# Altium schematic symbol library mcHF_rf.SchLib: 60 symbols
Pins are listed as number, name and electrical type; pins without a type are passive.

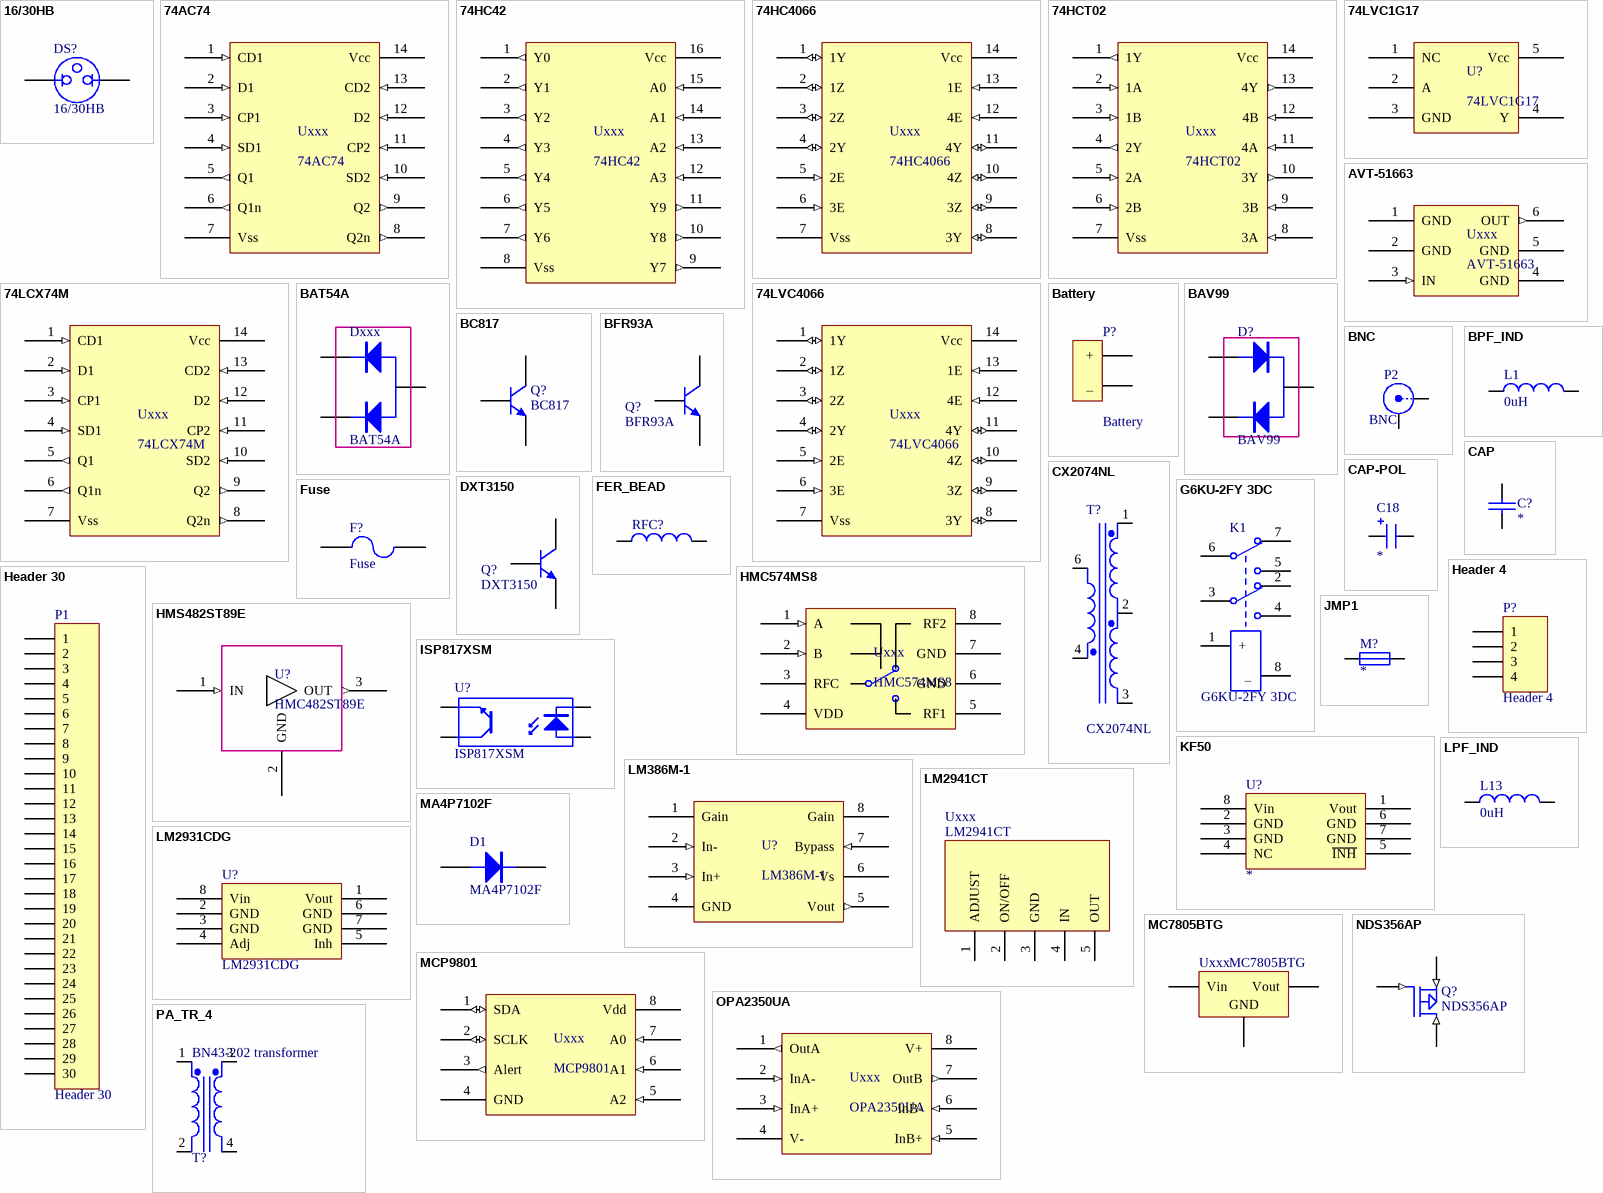
[diagram p0: symbols 16/30HB to PA_TR_4]

## 16/30HB
designator DS?
NEON LAMP, WIRE ENDED, T2; Order: FN 113-9250; Price: 0.243
footprint SIP2
pins: 1, 2

## 74AC74
designator Uxxx
Dual D-Type Flip-Flop
pins: 1 CD1 (in), 2 D1 (in), 3 CP1 (in), 4 SD1 (in), 5 Q1 (out), 6 Q1n (out), 7 Vss (power), 8 Q2n (out), 9 Q2 (out), 10 SD2 (in), 11 CP2 (in), 12 D2 (in), 13 CD2 (in), 14 Vcc (power)

## 74HC42
designator Uxxx
Address Decoder
pins: 1 Y0 (out), 2 Y1 (out), 3 Y2 (out), 4 Y3 (out), 5 Y4 (out), 6 Y5 (out), 7 Y6 (out), 8 Vss (power), 9 Y7 (out), 10 Y8 (out), 11 Y9 (out), 12 A3 (in), 13 A2 (in), 14 A1 (in), 15 A0 (in), 16 Vcc (power)

## 74HC4066
designator Uxxx
Quad bilateral switch
footprint SO-14
pins: 1 1Y (io), 2 1Z (io), 3 2Z (io), 4 2Y (io), 5 2E (in), 6 3E (in), 7 Vss (power), 8 3Y (io), 9 3Z (io), 10 4Z (io), 11 4Y (io), 12 4E (in), 13 1E (in), 14 Vcc (power)

## 74HCT02
designator Uxxx
Quad 2-input NOR gate; Order: FN 108-5298; Price: 0.38
footprint SO-14
pins: 1 1Y (out), 2 1A (in), 3 1B (in), 4 2Y (out), 5 2A (in), 6 2B (in), 7 Vss (power), 8 3A (in), 9 3B (in), 10 3Y (out), 11 4A (in), 12 4B (in), 13 4Y (out), 14 Vcc (power)

## 74LCX74M
designator Uxxx
Low Voltage Dual D-Type Positive Edge-Triggered  Flip-Flop with 5V Tolerant Inputs; Order: FN 101-3791; Price: 0.27
footprint SO-14
pins: 1 CD1 (in), 2 D1 (in), 3 CP1 (in), 4 SD1 (in), 5 Q1 (out), 6 Q1n (out), 7 Vss (power), 8 Q2n (out), 9 Q2 (out), 10 SD2 (in), 11 CP2 (in), 12 D2 (in), 13 CD2 (in), 14 Vcc (power)

## 74LVC1G17
designator U?  (graphical)
SINGLE SCHMITT-TRIGGER BUFFER; Order: FN 189-3834; Price: 0.082
footprint SOT353-5 (5 lead package DCK)
pins: 1 NC, 2 A, 3 GND, 4 Y, 5 Vcc

## 74LVC4066
designator Uxxx
Quad bilateral switch
pins: 1 1Y (io), 2 1Z (io), 3 2Z (io), 4 2Y (io), 5 2E (in), 6 3E (in), 7 Vss (power), 8 3Y (io), 9 3Z (io), 10 4Z (io), 11 4Y (io), 12 4E (in), 13 1E (in), 14 Vcc (power)

## AVT-51663
designator Uxxx  (graphical)
InGaP HBT Gain Block
pins: 1 GND (power), 2 GND (power), 3 IN (in), 4 GND (power), 5 GND (power), 6 OUT (out)

## BAT54A
designator Dxxx
DIODE, SCHOTTKY, DUAL; Order: FN 108-1191; Price: 0.024
footprint SOT-23
pins: 1 K1, 2 K2, 3 A
2 alternate drawings of the same symbol

## Battery
designator P?
Battery Terminal
footprint BatteryTerminal
pins: 1 +, 2 _

## BAV99
designator D?
Small Signal Diode, Dual Series; Order: FN 162-1837; Price: 0.0618
footprint SOT-23
pins: 1 A1, 2 K1, 3 C
2 alternate drawings of the same symbol

## BC817
designator Q?
NPN General Purpose Amplifier; Order: FN 108-1223; Price: 0.0309
footprint SOT-23
pins: 1 B, 2 E, 3 C

## BFR93A
designator Q?
TRANSISTOR, RF, NPN, 12V, 0.035MA,SOT-23; Order: FN 108-1300; Price: 0.161
footprint SOT-23
pins: 1 B, 2 E, 3 C

## BNC
designator P2
RF COAXIAL, BNC, JACK; Order: FN 171-2350; Price: 0.69
footprint BNC_RA CON (Connector; BNC Elbow)
pins: 1 X, 2 Y

## BPF_IND
designator L1, comment 0uH
INDUCTOR SMD; Order: FN
signal-integrity model Inductor
footprint 0805
pins: 1, 2

## CAP
designator C?
Capacitor; Order: FN; Price: 0
footprint 0805
pins: 1, 2

## CAP-POL
designator C18
Electrolitic capacitor
footprint 1206
pins: 1, 2
2 alternate drawings of the same symbol

## CX2074NL
designator T?
Wideband RF Transformer 1:4; Order: DK 553-1655-ND; Price: 2.01
footprint SOP5_NEW1 (Small Outline; 6 Leads (1 Absent); Body Width 6.9 mm; Pitch 2 mm)
pins: 1 Sec0, 2 SecCmn, 3 Sec180, 4 Pri-, 6 Pri+

## DXT3150
designator Q?
BIPOLAR, TRANSISTOR, NPN, SOT-89; Order: FN 171-3880; Price: 0.221
footprint SOT89L (SOT89, 3-Leads, Body 4.5x2.4 mm, Pitch 1.5mm, Lead Span 4.1mm, IPC High Density)
pins: 1 B, 2 C, 3 E

## FER_BEAD
designator RFC?, comment 0uH  (value not drawn)
BN43-2402 1t choke; Order: EB 300988432524; Price: 0.298
footprint F_Bead (Ferrite bead choke, 1t, BN43-2402)
pins: 1, 2

## Fuse
designator F?
Order: FN 184-1065; Price: 0.134
footprint 1206
pins: 1, 2

## G6KU-2FY 3DC
designator K1
Single-winding Latching Relay; Order: FN 118-1070; Price: 2.19
footprint Omron_2FY (Omron SMD relay)
pins: 1 +, 2, 3, 4, 5, 6, 7, 8 _

## Header 4
designator P?
Header, 4-Pin
signal-integrity model Connector
footprint HDR1X4 (Connector; Header; 4 Position)
pins: 1, 2, 3, 4

## Header 30
designator P1
Header, 30-Pin; Order: EB 290947876334; Price: 0.295
signal-integrity model Connector
footprint HDR1X30 (Connector; Header; 30 Position)
pins: 1, 2, 3, 4, 5, 6, 7, 8, 9, 10, 11, 12, 13, 14, 15, 16, 17, 18, 19, 20, 21, 22, 23, 24, 25, 26, 27, 28, 29, 30

## HMC574MS8
designator Uxxx  (graphical)
GaAs MMIC 5 WATT T/R SWITCH
pins: 1 A (in), 2 B (in), 3 RFC, 4 VDD (power), 5 RF1, 6 GND, 7 GND (power), 8 RF2

## HMS482ST89E
designator U?, comment HMC482ST89E
MMIC AMPLIFIER
footprint SOT89L_new (SOT89, 3-Leads, Body 4.5x2.4 mm, Pitch 1.5mm, Lead Span 4.1mm, IPC High Density)
pins: 1 IN (in), 2 GND (power), 3 OUT (out)

## ISP817XSM
designator U?
OPTOCOUPLER, SMDIP-4, TR O/P; Order: FN 168-3292; Price: 0.26
footprint SMDIP-4_new1 (4 pin SMD DIP, pitch 2.54mm)
pins: 1 A "Anode", 2 K "Cathode", 3 E "Emitter", 4 C "Collector"

## JMP1
designator M?
Jumper
footprint 0805-Jumper
pins: 1, 1
2 alternate drawings of the same symbol

## KF50
designator U?
5V regulator with inhibit
footprint SO-8
pins: 1 Vout, 2 GND, 3 GND, 4 NC, 5 ~{INH}, 6 GND, 7 GND, 8 Vin

## LM386M-1
designator U?
Low Voltage Audio Power Amplifier; Order: FN 948-8324; Price: 0.63
footprint SO-8
pins: 1 Gain, 2 In- (in), 3 In+ (in), 4 GND (power), 5 Vout (out), 6 Vs (power), 7 Bypass (in), 8 Gain

## LM2931CDG
designator U?
100 mA, Adjustable Output,  LDO Voltage Regulator with  60 V Load Dump Protection; Order: FN 121-1100; Price: 0.39
footprint SO-8
pins: 1 Vout, 2 GND, 3 GND, 4 Adj, 5 Inh, 6 GND, 7 GND, 8 Vin

## LM2941CT
designator Uxxx
V REG ADJ +5/20V, 2941, TO-220-5; Order: FN 948-9371; Price: 1.28
footprint TO-220-5 (TO, Thru-Hole, Vertical, Heatsink Mounted; 5 In-Line Leads; Pitch 1.70 mm)
pins: 1 ADJUST, 2 ON/OFF, 3 GND, 4 IN, 5 OUT

## LPF_IND
designator L13, comment 0uH
T37-2 handwound inductor; Order: EB 400348182316; Price: 0.20
footprint LPF_IND (T37-2 inductor)
pins: 1, 2

## MA4P7102F
designator D1
MELF & HIPAX PIN Diod; Order: DK 1465-1236-1-ND; Price: 2.20
footprint 1072T (1072 MELF package)
pins: 1 K, 2 A

## MC7805BTG
designator Uxxx
VOLTAGE REG, 40V, TO220-3; Order: FN 121-1135; Price: 0.56
footprint TO-220 (TO, Thru-Hole, Vertical, Heatsink Mounted; 3 In-Line Leads; Pitch 2.54 mm)
pins: 1 Vin, 2 GND, 3 Vout

## MCP9801
designator Uxxx  (graphical)
2-Wire High-Accuracy Temperature Sensor; Order: FN 143-9486; Price: 1.05
footprint SO-8
pins: 1 SDA (io), 2 SCLK (io), 3 Alert (out), 4 GND (power), 5 A2 (in), 6 A1 (in), 7 A0 (in), 8 Vdd (power)

## NDS356AP
designator Q?
Order: FN 984-6409; Price: 0.31
footprint SOT-23
pins: 1 G (in), 2 S (in), 3 D (in)

## OPA2350UA
designator Uxxx
High Speed, Single Supply OpAmp; Order: FN 110-1542; Price: 4.67
footprint SO-8
pins: 1 OutA (out), 2 InA- (in), 3 InA+ (in), 4 V- (power), 5 InB+ (in), 6 InB- (in), 7 OutB (out), 8 V+ (power)

## PA_TR_4
designator T?, comment BN43-202 transformer
BN43-202 2:3 transformer; Order: EB 291023830340; Price: 0.534
footprint PA_TRM_4 (transformer 2:3, 4 pin, BN43-202)
pins: 1 Pri+, 2 Pri-, 3 Sec+, 4 Sec-

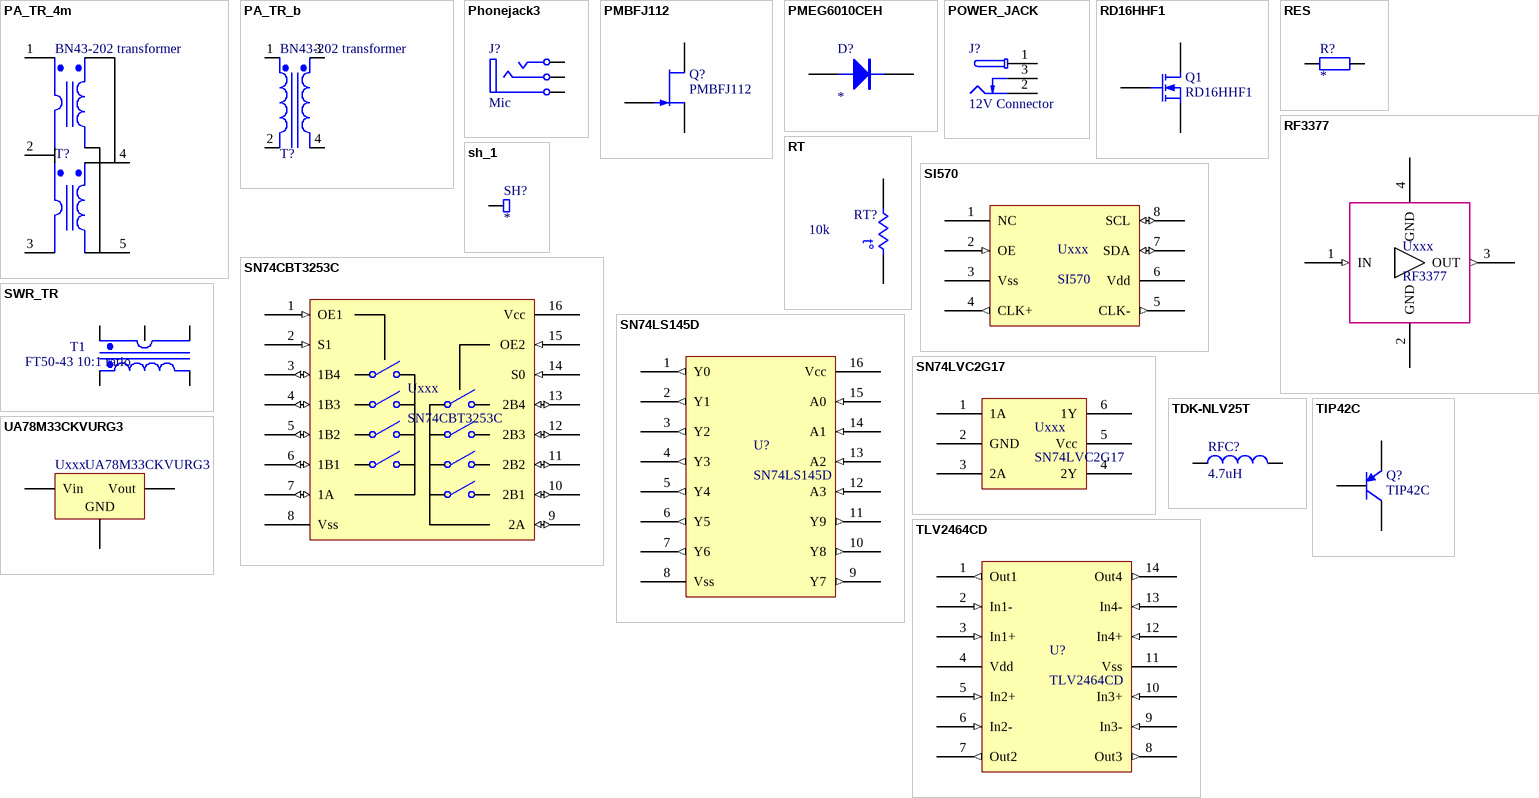
[diagram p1: symbols PA_TR_4m to UA78M33CKVURG3]

## PA_TR_4m
designator T?, comment BN43-202 transformer
BN43-202 2:3 transformer; Order: EB 291023830340; Price: 0.534
footprint PA_TRM_4m (transformer 2:3, 4 pin, BN43-202)
pins: 1 Pri 0 deg, 2 Pri Common, 3 Pri 180 deg, 4 Sec+, 5 Sec-

## PA_TR_b
designator T?, comment BN43-202 transformer
BN43-202 bifilar transformer; Order: EB 291023830340; Price: 0.534
footprint PA_TRM_b (bifilar transformer, 4 pin, BN43-202)
pins: 1 Pri+, 2 Pri-, 3 Sec+, 4 Sec-

## Phonejack3
designator J?, comment Mic
Jack Socket,Thru-Hole; Order: FN 126-7376; Price: 0.35
footprint MX-387GL (Pro Signal 3pin receptacle)
pins: R "Ring/Right Channel", S (power) "Sleeve (Ground)", T "Tip/Left Channel"

## PMBFJ112
designator Q?
N-Channel JFET; Order: FN 134-9667; Price: 0.36
footprint SOT-23
pins: 1 D, 2 S, 3 G

## PMEG6010CEH
designator D?
DIODE, SCHOTTKY, 1A, 60V, SOD-123F; Order: FN 151-0694; Price: 0.085
footprint SOD87
pins: 1 A, 2 K

## POWER_JACK
designator J?, comment 12V Connector
Power Jack; Order: FN 188-9309; Price: 0.83
footprint PowerJack
pins: 1, 2, 3

## RD16HHF1
designator Q1
Silicon RF Power MOS FET; Order: EB 121171160336; Price: 7.375
footprint TO-220RF_dual (modified TO-220 to accept mitsubishi and IRF transistors)
pins: 1 G, 2 S, 3 D

## RES
designator R?
Resistor
footprint 0805
pins: 1, 2
2 alternate drawings of the same symbol

## RF3377
designator Uxxx
AMP, RF, GAIN BCK, DC-6GHZ, SOT89
pins: 1 IN (in), 2 GND (power), 3 OUT (out), 4 GND (power)

## RT
designator RT?, comment 10k
NTC Thermistor; Order: FN 228-5468; Price: 4.57
footprint SIP2m
pins: 1, 2
text: t°

## sh_1
designator SH?
shielding pad
footprint shield_pad
pins: 1
2 alternate drawings of the same symbol

## SI570
designator Uxxx  (graphical)
I2C programmable XO; Order: DK 336-2518-ND; Price: 8.72
footprint SI570_m (PLL, SM; Body 7 x 5 mm (LxW))
pins: 1 NC, 2 OE (in), 3 Vss (power), 4 CLK+ (out), 5 CLK- (out), 6 Vdd (power), 7 SDA (io), 8 SCL (io)

## SN74CBT3253C
designator Uxxx
Dual 4:1 Demux/Analog Switch; Order: FN 175-0447; Price: 0.69
footprint SO-16
pins: 1 OE1 (in), 2 S1 (in), 3 1B4 (io), 4 1B3 (io), 5 1B2 (io), 6 1B1 (io), 7 1A (io), 8 Vss (power), 9 2A (io), 10 2B1 (io), 11 2B2 (io), 12 2B3 (io), 13 2B4 (io), 14 S0 (in), 15 OE2 (in), 16 Vcc (power)

## SN74LS145D
designator U?
BCD DECODER/DRIVER; Order: FN 959-2300; Price: 1.22
footprint SO-16
pins: 1 Y0 (out), 2 Y1 (out), 3 Y2 (out), 4 Y3 (out), 5 Y4 (out), 6 Y5 (out), 7 Y6 (out), 8 Vss (power), 9 Y7 (out), 10 Y8 (out), 11 Y9 (out), 12 A3 (in), 13 A2 (in), 14 A1 (in), 15 A0 (in), 16 Vcc (power)

## SN74LVC2G17
designator Uxxx  (graphical)
Dual Schmitt Trigger Buffer; Order: FN 128-7569; Price: 0.40
footprint SOT25-6 (6 lead package)
pins: 1 1A, 2 GND, 3 2A, 4 2Y, 5 Vcc, 6 1Y

## SWR_TR
designator T1, comment FT50-43 10:1 ratio
SWR Bridge transformer; Order: EB 300771069431; Price: 0.795
footprint SWR_TR _new (FT50-43 10:1 transformer)
pins: 1 Pri+, 2 Pri-, 3 Sec+, 4 Sec-, 5 Shield

## TDK-NLV25T
designator RFC?, comment 4.7uH
INDUCTOR, SIGNAL LINE, 4.7UH, 1005; Order: FN 166-9896; Price: 0.166
signal-integrity model Inductor
footprint 0805
pins: 1, 2

## TIP42C
designator Q?
PNP 65W Switch; Order: FN 157-4342; Price: 2.84
footprint TO-220c (TO, Thru-Hole, Vertical, Heatsink Mounted; 3 In-Line Leads; Pitch 2.54 mm)
pins: 1 B, 2 C, 3 E

## TLV2464CD
designator U?
Low Power, Rail-To-Rail OpAmp; Order: FN 845-5171; Price: 1.47
footprint SO-14
pins: 1 Out1 (out), 2 In1- (in), 3 In1+ (in), 4 Vdd (power), 5 In2+ (in), 6 In2- (in), 7 Out2 (out), 8 Out3 (out), 9 In3- (in), 10 In3+ (in), 11 Vss (power), 12 In4+ (in), 13 In4- (in), 14 Out4 (out)

## UA78M33CKVURG3
designator Uxxx
VOLT REG, 3.3V, TO-252; Order: FN 207-5446; Price: 0.58
footprint TO-252 (Plastic flagne mount package)
pins: 1 Vin, 2 GND, 3 Vout